# EAGLE library part ATTINY85-20SU (library BadgeParts)
MICROCHIP - ATTINY85-20SU - MICROCONTROLLER MCU, 8 BIT, ATTINY, 20MHZ, SOIC-8 Source: Datasheet <https://componentsearchengine.com/Datasheets/2/ATTINY85-20SU.pdf>
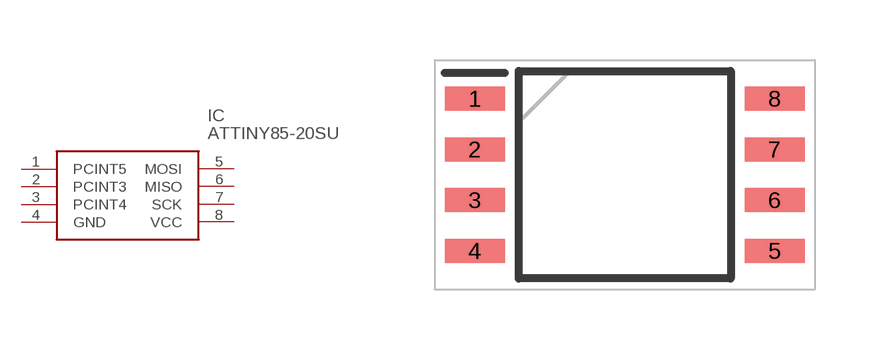
[diagram p3: symbol with the pads of SOT127P798X216-8N; footprint SOT127P798X216-8N]

Designator prefix IC

## ATTINY85-20SU (ARROW_PART_NUMBER: ATTINY85-20SU; ARROW_PRICE/STOCK: https://www.arrow.com/en/products/attiny85-20su/microchip-technology; DESCRIPTION: MICROCHIP - ATTINY85-20SU - MICROCONTROLLER MCU, 8 BIT, ATTINY, 20MHZ, SOIC-8; HEIGHT: 2.16mm; MANUFACTURER_NAME: Microchip; MANUFACTURER_PART_NUMBER: ATTINY85-20SU; RS_PART_NUMBER: 1331674; RS_PRICE/STOCK: http://uk.rs-online.com/web/p/products/1331674)  [SOT127P798X216-8N]
1  PCINT5
2  PCINT3
3  PCINT4
4  GND  pwr
5  MOSI
6  MISO
7  SCK
8  VCC  pwr

## Footprint SOT127P798X216-8N (pad centres in mm)
8S2
smd 1.5 x 0.6: 1 -3.75,1.905; 2 -3.75,0.635; 3 -3.75,-0.635; 4 -3.75,-1.905; 5 3.75,-1.905; 6 3.75,-0.635; 7 3.75,0.635; 8 3.75,1.905